# Altium footprint library CDBU0320.PcbLib: 1 footprints
Each footprint in its own frame and in the unit in brackets; x right, y up, seen from the top. Pads: shape width x height; smd on the part's side, far side on the other; paste and mask are expansions set on the pad; w line width, h text height; cw(c..) or ccw(c..) is an arc to the next point about the centre after c.
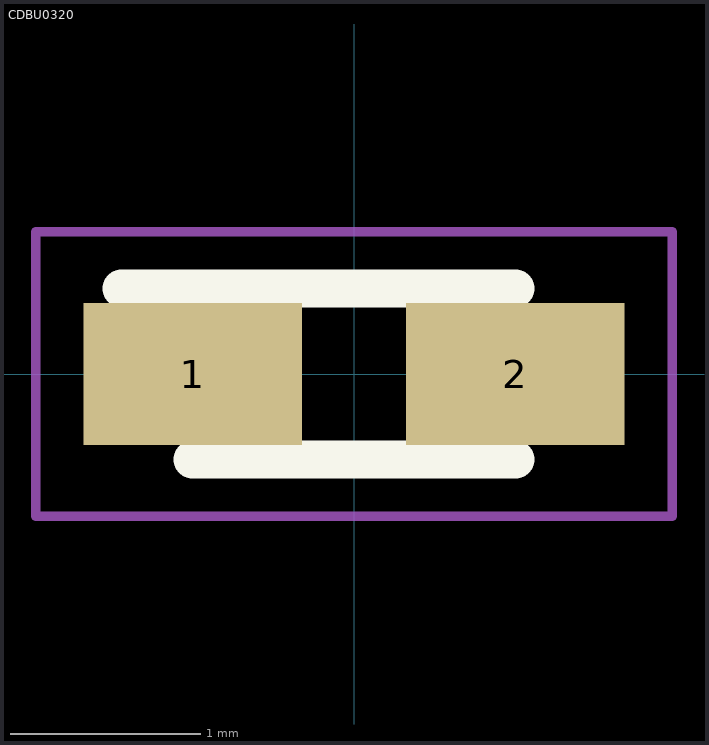
[diagram p0: the footprint, top view; thin cyan lines are the x and y axes]

## CDBU0320 [mm]
pads (2):
  rect 1.15x0.75 smd: 1(-0.85,0) 2(0.85,0)
Top Overlay:
  lines w0.2: -1.225,0.45 0.85,0.45 ; -0.85,-0.45 0.85,-0.45
Mechanical 15:
  lines w0.1: -0.85,0.075 -0.475,0.45 ; -0.85,-0.45 -0.85,0.45 0.85,0.45 0.85,-0.45 -0.85,-0.45
Mechanical 20:
  lines w0.05: -1.675,-0.75 -1.675,0.75 1.675,0.75 1.675,-0.75 -1.675,-0.75